# Altium integrated library ek-ra8d2_mp - Customer.IntLib: 133 symbols (part 2 of 2)
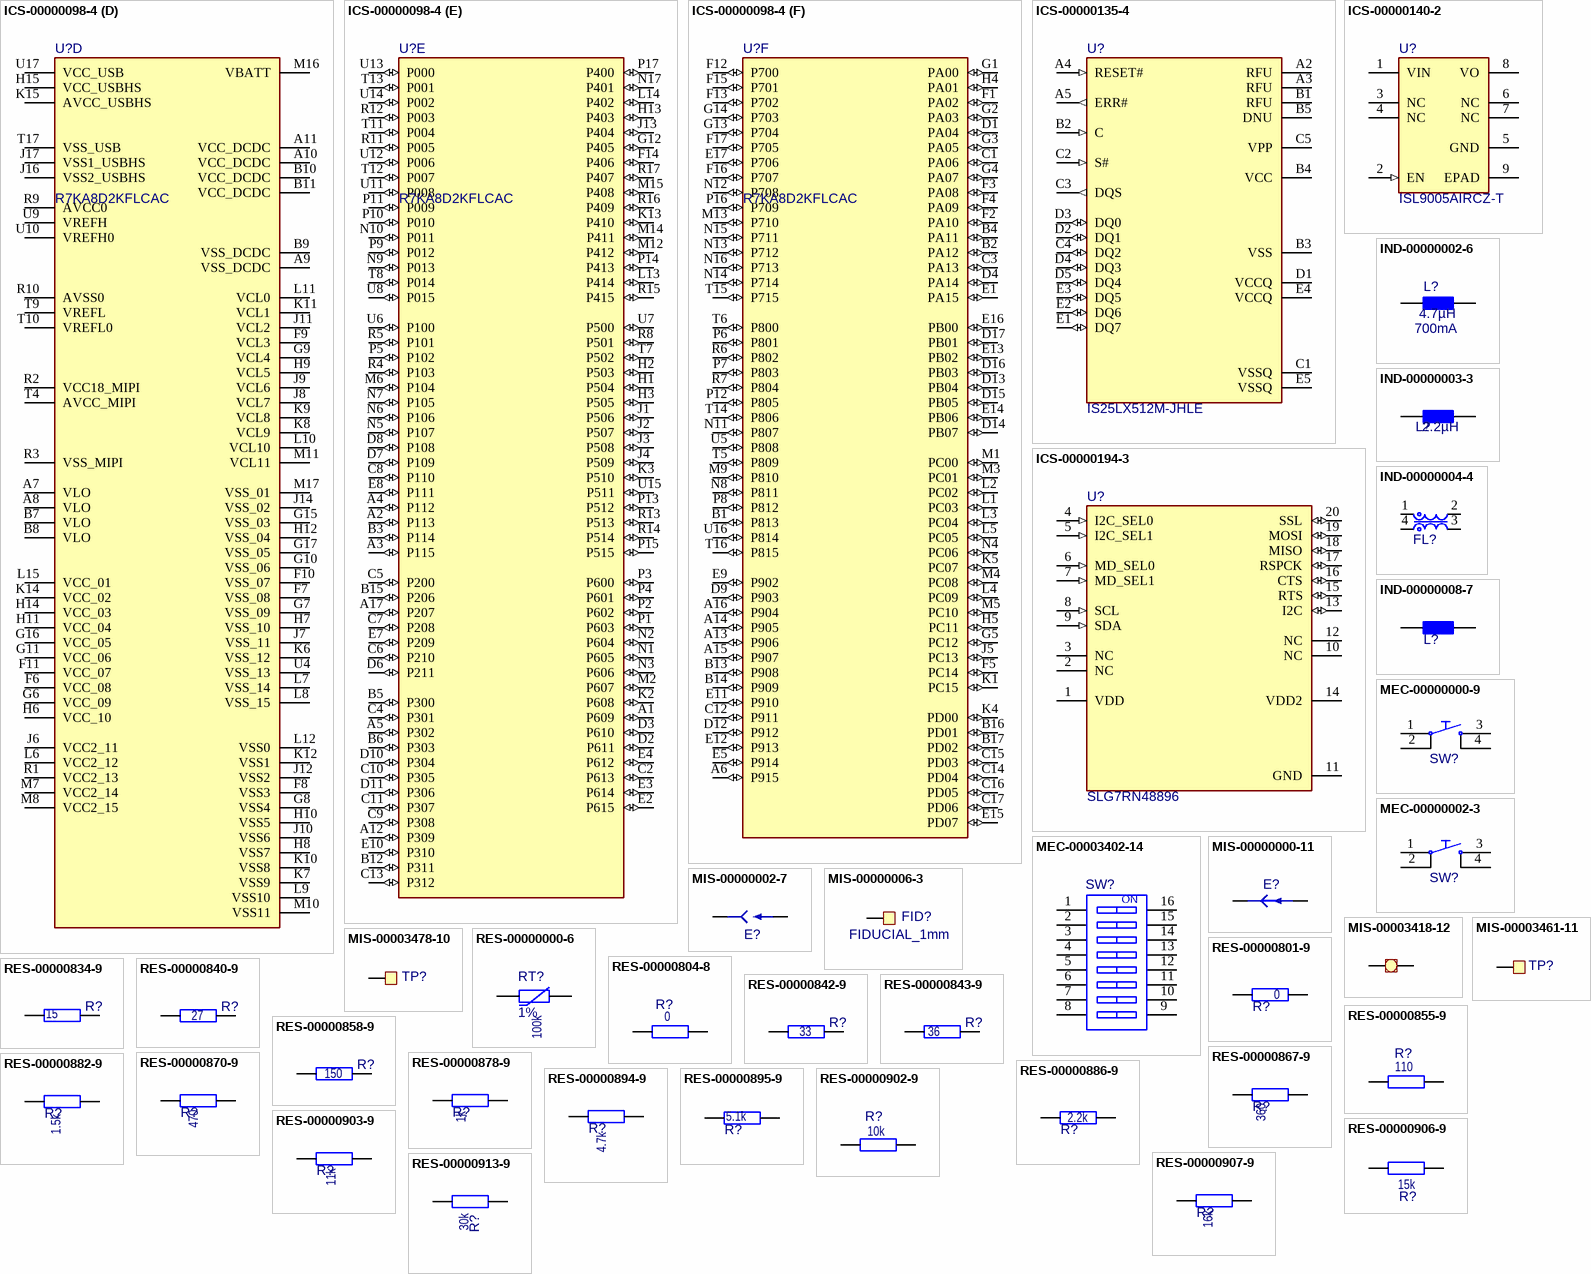
[diagram p6: symbols ICS-00000098-4 to RES-00000913-9]

## ICS-00000098-4
designator U?, comment R7KA8D2KFLCAC
Renesas RA8D2 32-bit MCU, High-performance 1 GHz Arm® Cortex®-M85 core, 250 MHz Arm® Cortex®-M33 core, up to 1 MB code MRAM, and 2 MB SRAM with ECC; Subtype: MCU/MPU; Operating Voltage Min: 1.62V; Frequency: 1GHz; Operating Voltage Max: 3.63V; Qualification: -; Operating Temperature Max: 95°C; Pin Count: 289; Operating Temperature Min: 0°C; Manufacturer: Renesas; Manufacturer Part Number: R7KA8D2KFLCAC; Component Type: Integrated Circuit
footprint ren_bga289_PRBG0289JA-A (BGA, PKG:PRBG0289JA-A 289-Leads, Body 12,00x12,00mmx1,71mm, Pitch 0,65mm)
part A pins: T1 MIPI_DL0_P (io), T2 MIPI_CL_P (io), T3 MIPI_DL1_P (io), U1 MIPI_DL0_N (io), U2 MIPI_CL_N (io), U3 MIPI_DL1_N (io)
part B pins: H16 USBHS_DP (io), H17 USBHS_DM (io), J15 USBHS_RREF (in)
part C pins: D5 RES (io), E6 MD (io), K16 XTAL (io), K17 EXTAL (io), L16 XCOUT (io), L17 XCIN (io)
part D pins: A7 VLO (power), A8 VLO (power), A9 VSS_DCDC (power), A10 VCC_DCDC (power), A11 VCC_DCDC (power), B7 VLO (power), B8 VLO (power), B9 VSS_DCDC (power), B10 VCC_DCDC (power), B11 VCC_DCDC (power), F6 VCC_08 (power), F7 VSS_08 (power), F8 VSS3 (power), F9 VCL3 (power), F10 VSS_07 (power), F11 VCC_07 (power), G6 VCC_09 (power), G7 VSS_09 (power), G8 VSS4 (power), G9 VCL4 (power), G10 VSS_06 (power), G11 VCC_06 (power), G15 VSS_03 (power), G16 VCC_05 (power), G17 VSS_05 (power), H6 VCC_10 (power), H7 VSS_10 (power), H8 VSS7 (power), H9 VCL5 (power), H10 VSS5 (power), H11 VCC_04 (power), H12 VSS_04 (power), H14 VCC_03 (power), H15 VCC_USBHS (power), J6 VCC2_11 (power), J7 VSS_11 (power), J8 VCL7 (power), J9 VCL6 (power), J10 VSS6 (power), J11 VCL2 (power), J12 VSS2 (power), J14 VSS_02 (power), J16 VSS2_USBHS (power), J17 VSS1_USBHS (power), K6 VSS_12 (power), K7 VSS9 (power), K8 VCL9 (power), K9 VCL8 (power), K10 VSS8 (power), K11 VCL1 (power), K12 VSS1 (power), K14 VCC_02 (power), K15 AVCC_USBHS, L6 VCC2_12 (power), L7 VSS_14 (power), L8 VSS_15 (power), L9 VSS10 (power), L10 VCL10 (power), L11 VCL0 (power), L12 VSS0 (power), L15 VCC_01 (power), M7 VCC2_14 (power), M8 VCC2_15 (power), M10 VSS11 (power), M11 VCL11 (power), M16 VBATT (power), M17 VSS_01 (power), R1 VCC2_13 (power), R2 VCC18_MIPI (power), R3 VSS_MIPI (power), R9 AVCC0 (power), R10 AVSS0 (power), T4 AVCC_MIPI (power), T9 VREFL (power), T10 VREFL0 (power), T17 VSS_USB (power), U4 VSS_13 (power), U9 VREFH (power), U10 VREFH0 (power), U17 VCC_USB (power)
part E pins: A1 P609 (io), A2 P113 (io), A3 P115 (io), A4 P112 (io), A5 P302 (io), A12 P309 (io), A17 P207 (io), B3 P114 (io), B5 P300 (io), B6 P303 (io), B12 P311 (io), B15 P206 (io), C2 P613 (io), C4 P301 (io), C5 P200 (io), C6 P210 (io), C7 P208 (io), C8 P110 (io), C9 P308 (io), C10 P305 (io), C11 P307 (io), C13 P312 (io), D2 P611 (io), D3 P610 (io), D6 P211 (io), D7 P109 (io), D8 P108 (io), D10 P304 (io), D11 P306 (io), E2 P615 (io), E3 P614 (io), E4 P612 (io), E7 P209 (io), E8 P111 (io), E10 P310 (io), F14 P406 (io), G12 P405 (io), H1 P504 (io), H2 P503 (io), H3 P505 (io), H13 P403 (io), J1 P506 (io), J2 P507 (io), J3 P508 (io), J4 P509 (io), J13 P404 (io), K2 P608 (io), K3 P510 (io), K13 P410 (io), L13 P414 (io), L14 P402 (io), M2 P607 (io), M6 P104 (io), M12 P412 (io), M14 P411 (io), M15 P408 (io), N1 P605 (io), N2 P604 (io), N3 P606 (io), N5 P107 (io), N6 P106 (io), N7 P105 (io), N9 P013 (io), N10 P011 (io), N17 P401 (io), P1 P603 (io), P2 P602 (io), P3 P600 (io), P4 P601 (io), P5 P102 (io), P9 P012 (io), P10 P010 (io), P11 P009 (io), P13 P512 (io), P14 P413 (io), P15 P515 (io), P17 P400 (io), R4 P103 (io), R5 P101 (io), R8 P501 (io), R11 P005 (io), R12 P003 (io), R13 P513 (io), R14 P514 (io), R15 P415 (io), R16 P409 (io), R17 P407 (io), T7 P502 (io), T8 P014 (io), T11 P004 (io), T12 P007 (io), T13 P001 (io), U6 P100 (io), U7 P500 (io), U8 P015 (io), U11 P008 (io), U12 P006 (io), U13 P000 (io), U14 P002 (io), U15 P511 (io)
part F pins: A6 P915 (io), A13 P906 (io), A14 P905 (io), A15 P907 (io), A16 P904 (io), B1 P813 (io), B2 PA12 (io), B4 PA11 (io), B13 P908 (io), B14 P909 (io), B16 PD01 (io), B17 PD02 (io), C1 PA06 (io), C3 PA13 (io), C12 P911 (io), C14 PD04 (io), C15 PD03 (io), C16 PD05 (io), C17 PD06 (io), D1 PA04 (io), D4 PA14 (io), D9 P903 (io), D12 P912 (io), D13 PB04 (io), D14 PB07 (io), D15 PB05 (io), D16 PB03 (io), D17 PB01 (io), E1 PA15 (io), E5 P914 (io), E9 P902 (io), E11 P910 (io), E12 P913 (io), E13 PB02 (io), E14 PB06 (io), E15 PD07 (io), E16 PB00 (io), E17 P706 (io), F1 PA02 (io), F2 PA10 (io), F3 PA08 (io), F4 PA09 (io), F5 PC14 (io), F12 P700 (io), F13 P702 (io), F15 P701 (io), F16 P707 (io), F17 P705 (io), G1 PA00 (io), G2 PA03 (io), G3 PA05 (io), G4 PA07 (io), G5 PC12 (io), G13 P704 (io), G14 P703 (io), H4 PA01 (io), H5 PC11 (io), J5 PC13 (io), K1 PC15 (io), K4 PD00 (io), K5 PC07 (io), L1 PC03 (io), L2 PC02 (io), L3 PC04 (io), L4 PC09 (io), L5 PC05 (io), M1 PC00 (io), M3 PC01 (io), M4 PC08 (io), M5 PC10 (io), M9 P810 (io), M13 P710 (io), N4 PC06 (io), N8 P811 (io), N11 P807 (io), N12 P708 (io), N13 P712 (io), N14 P714 (io), N15 P711 (io), N16 P713 (io), P6 P801 (io), P7 P803 (io), P8 P812 (io), P12 P805 (io), P16 P709 (io), R6 P802 (io), R7 P804 (io), T5 P809 (io), T6 P800 (io), T14 P806 (io), T15 P715 (io), T16 P815 (io), U5 P808 (io), U16 P814 (io)

## ICS-00000135-4
designator U?, comment IS25LX512M-JHLE
NOR Flash 512Mb, Octal Flash, 3V, 24-ball TFBGA; Manufacturer: ISSI; Operating Voltage Max: 3.6V; Subtype: Digital; Operating Voltage Min: 2.7V; Current: 13mA; Frequency: 133MHz; Pin Count: 24; Operating Temperature Min: -40°C; Qualification: -; Operating Temperature Max: 105°C; Manufacturer Part Number: IS25LX512M-JHLE; Component Type: Integrated Circuit
footprint isi_TFBGA-24_8x6 (ISSI 24-ball TFBGA 6x8mm 5x5 Array)
pins: A2 RFU, A3 RFU, A4 RESET# (in), A5 ERR# (out), B1 RFU, B2 C (in), B3 VSS (power), B4 VCC (power), B5 DNU, C1 VSSQ (power), C2 S# (in), C3 DQS (out), C4 DQ2 (io), C5 VPP (power), D1 VCCQ (power), D2 DQ1 (io), D3 DQ0 (io), D4 DQ3 (io), D5 DQ4 (io), E1 DQ7 (io), E2 DQ6 (io), E3 DQ5 (io), E4 VCCQ (power), E5 VSSQ (power)

## ICS-00000140-2
designator U?, comment ISL9005AIRCZ-T
LDO with Low ISUPPLY, High PSRR 1.8V fixed, 300mA; Manufacturer: Renesas; Subtype: Power; Operating Voltage Max: 6.5V; Operating Voltage Min: 2.3V; Current: 300mA; Operating Temperature Max: 85°C; Pin Count: 9; Qualification: -; Operating Temperature Min: -40°C; Output Voltage Max: 1.8V; Output Voltage Min: 1.8V; Manufacturer Part Number: ISL9005AIRCZ-T; Component Type: Integrated Circuit
footprint ren_DFN-8_3.00x2.00mm (DFN, 8-Leads, Body 3,00x2,00mm, Pitch 0,50mm, Thermal Pad 1,80x1.65mm, IPC Medium Density)
pins: 1 VIN (power), 2 EN (in), 3 NC (hiz), 4 NC (hiz), 5 GND (power), 6 NC (hiz), 7 NC (hiz), 8 VO (power), 9 EPAD (power)

## ICS-00000194-3
designator U?, comment SLG7RN48896
Renesas GreenPak PMOD mode controller; Operating Voltage Min: 3V; Operating Voltage Max: 3.6V; Subtype: Digital; Pin Count: 20; Qualification: -; Operating Temperature Max: 35°C; Operating Temperature Min: 15°C; Manufacturer: Renesas; Manufacturer Part Number: SLG7RN48896; Component Type: Integrated Circuit
footprint ren_STQFN-20_2x3 (STQFN, 20-Leads, Body 2,00x3,00mm, Pitch 0,40mm, IPC Medium Density)
pins: 1 VDD (power), 2 NC, 3 NC, 4 I2C_SEL0 (in), 5 I2C_SEL1 (in), 6 MD_SEL0 (in), 7 MD_SEL1 (in), 8 SCL (in), 9 SDA (in), 10 NC, 11 GND (power), 12 NC, 13 I2C (io), 14 VDD2 (power), 15 RTS (io), 16 CTS (io), 17 RSPCK (io), 18 MISO (io), 19 MOSI (io), 20 SSL (io)

## IND-00000002-6
designator L?, comment value 4.7µH  Current: 700mA  (hidden comment: Inductor)
Power Inductor Shielded Multilayer 4.7uH 20% 3MHz Ferrite 700mA; Manufacturer: Pulse Electronics; Manufacturer Part Number: BKPB002012104R7MA2; DC Resistance: 0.26; Subtype: Fixed; Tolerance: 20%; Frequency: 3MHz; Height: 1mm; Operating Temperature Max: 125°C; Operating Temperature Min: -55°C; Qualification: -; Component Type: Inductor
footprint L_EIA0805 (Chip Inductor, 2-Leads, Body 2.00x1.25mm, IPC Medium Density)
pins: 1, 2
1 alternate drawing of the same symbol

## IND-00000003-3
designator L?, comment value 2.2µH  (hidden comment: Inductor)
Inductor, 2.2uH, 20%, 7A, Metal-Core; Manufacturer: TDK; Manufacturer Part Number: SPM5020T-2R2M-LR; DC Resistance: 37m; Frequency: 100kHz; Subtype: Fixed; Current: 7A; Tolerance: 20%; Height: 2mm; Operating Temperature Max: 125°C; Operating Temperature Min: -40°C; Qualification: -; Component Type: Inductor
footprint tdk_spm5020-lr (Precision Wire Wound Inductor, TDK SPM5020-LR Series, 2-Leads, Body 5,40x5,10mm, IPC Medium Density)
pins: 1, 2
1 alternate drawing of the same symbol

## IND-00000004-4
designator FL?, comment CMC_1-2_4-3  (value not drawn)
Common Mode Choke / Filters, 90uH 25%, 0.1A, 3.8Ohm DCR; Manufacturer: Murata; Manufacturer Part Number: DLM0NSM900HY2D; Current: 100mA; DC Resistance: 3.8; Frequency: 100MHz; Subtype: CMC; Value: 90; Tolerance: 25%; Height: 450mm; Operating Temperature Max: 85°C; Operating Temperature Min: -40°C; Qualification: -; Component Type: Inductor
footprint mur_EIA03025 (Common Mode Choke, 4-Leads, Body 0.85x0.65mm, IPC Medium Intensity)
pins: 1, 2, 3, 4

## IND-00000008-7
designator L?, comment MPZ1005S121CT000  (value not drawn)
Ferrite Chip, 1.2A, 90mOhm DCR, 120Ohm Impedance @100MHz; Manufacturer: TDK; Tolerance: 25%; DC Resistance: 90m; Frequency: 100MHz; Value: 120; Current: 1.2A; Height: 550µm; Operating Temperature Max: 125°C; Operating Temperature Min: -55°C; Qualification: -; Subtype: Ferrite; Manufacturer Part Number: MPZ1005S121CT000; Component Type: Inductor
footprint L_EIA0402 (Chip Inductor, 2-Leads, Body 1.05x0.54mm, IPC Medium Density)
pins: 1, 2
1 alternate drawing of the same symbol

## MEC-00000000-9
designator SW?, comment PTS645SK43SMTR92LFS  (value not drawn)
SMD Push Button Switch, 4-pin, 6x6mm, 4.3mm height,  Red Actuator; Manufacturer: C&K Components; Current: 50mA; Operating Voltage Max: 12V; Operating Temperature Max: 85°C; Operating Temperature Min: -40°C; Subtype: Switch; Manufacturer Part Number: PTS645SK43SMTR92LFS; Component Type: Mechanical
footprint ck_PTS645_g_smt_4p3_red (SMD Push Button Switch, 4-pin, 6x6mm, SMT G Type, 4.3mm height)
pins: 1, 2, 3, 4

## MEC-00000002-3
designator SW?, comment PTS645SM43SMTR92LFS  (value not drawn)
SMD Push Button Switch, 4-pin, 6x6mm, 4.3mm height, Blue Actuator; Manufacturer: C&K Components; Current: 50mA; Operating Voltage Max: 12V; Subtype: Switch; Operating Temperature Min: -20°C; Operating Temperature Max: 60°C; Manufacturer Part Number: PTS645SM43SMTR92LFS; Component Type: Mechanical
footprint ck_PTS645_g_smt_4p3 (SMD Push Button Switch, 4-pin, 6x6mm, SMT G Type, 4.3mm height)
pins: 1, 2, 3, 4

## MEC-00003402-14
designator SW?, comment 416131160808  (value not drawn)
WS-DISV Small Compact SMT Flat Actuator with Top Tape 1.27 mm; Manufacturer: Wurth Elektronik; Current: 100mA; Operating Voltage Max: 50V; Subtype: Switch; Operating Temperature Max: 85°C; Operating Temperature Min: -40°C; Manufacturer Part Number: 416131160808; Component Type: Mechanical
footprint wue_416131160808 (SMD Dip Switch, Small Compact, Raised Actuator, 8pin)
pins: 1, 2, 3, 4, 5, 6, 7, 8, 9, 10, 11, 12, 13, 14, 15, 16
text: ON

## MIS-00000000-11
designator E?, comment TRACE_CUT_0805  (value not drawn)  (net tie, no BOM)
Trace Cut, SMD, 0805 size; Value: TC; Pin Count: 2; Qualification: -; Subtype: Trace Cut; Component Type: Miscellaneous
footprint trace_cut_0805 (Trace Cut, 0805-size)
pins: 1, 2

## MIS-00000002-7
designator E?, comment SOLDER_BRIDGE_0805  (value not drawn)  (no BOM)
Solder Bridge, SMD, 0805 size; Value: SB; Subtype: Solder Bridge; Qualification: -; Pin Count: 2; Component Type: Miscellaneous
footprint solder_bridge_0805 (Solder Bridge, 0805-size)
pins: 1, 2

## MIS-00000006-3
designator FID?, comment FIDUCIAL_1mm  (no BOM)
Fiducial, 1mm, 0.5mm soldermask; Subtype: Testpoint; Value: TP; Qualification: -; Pin Count: 1; Component Type: Miscellaneous
footprint Fiducial_1mm (Fiducial, 1mm, 0.5mm soldermask)
pins: 1

## MIS-00003418-12
designator FS?, comment FS_Trace_120um  (value not drawn)  (net tie, no BOM)
Force-Sense Trace 120um; Subtype: Force Sense; Value: FS Trace; Pin Count: 2; Qualification: -; Component Type: Miscellaneous
footprint force_sense_120um (Force sense Trace 120um)
pins: 1, 2

## MIS-00003461-11
designator TP?, comment TP_VIA_0p45_0p15  (value not drawn)  (no BOM)
Testpoint,THT,0.45mm PTH; Value: TP; Subtype: Testpoint; Qualification: -; Pin Count: 1; Component Type: Miscellaneous
footprint TP_VIA_0p45_0p15 (Testpoint)
pins: 1

## MIS-00003478-10
designator TP?, comment TP_Mini  (value not drawn)
Testpoint Miniature; Manufacturer: Keystone; Manufacturer Part Number: 5019; Value: TP; Pin Count: 1; Qualification: -; Subtype: Testpoint; Component Type: Miscellaneous
footprint key_5019
pins: 1

## RES-00000000-6
designator RT?, comment value 100k  Tolerance: 1%  (hidden comment: Thermistor)
NTC Thermistor, R_EIA0402, 100K, 4250K; Manufacturer: Murata; Manufacturer Part Number: NCP15WF104F03RC; Operating Voltage Max: 5V; Power: 160µW; Height: 550µm; Operating Temperature Max: 125°C; Operating Temperature Min: -40°C; Qualification: -; Subtype: Thermistor; Component Type: Resistor
footprint R_EIA0402 (Chip Resistor, 2-Leads, Body 1.05x0.54mm, IPC Medium Density)
pins: 1, 2

## RES-00000801-9
designator R?, comment value 0  (hidden comment: Resistor)
Resistor,EIA0402,0,0.0625W; Manufacturer: Yageo Group; Manufacturer Part Number: RC0402JR-070RL; Power: 62.5mW; Tolerance: 5%; Subtype: Chip Resistor; Operating Temperature Max: 155°C; Operating Temperature Min: -55°C; Qualification: -; Component Type: Resistor
footprint R_EIA0402 (Chip Resistor, 2-Leads, Body 1.05x0.54mm, IPC Medium Density)
pins: 1, 2

## RES-00000804-8
designator R?, comment value 0  (hidden comment: Resistor)
Resistor,EIA1206,0,0.25W; Manufacturer: Yageo Group; Manufacturer Part Number: RC1206JR-070RL; Power: 250mW; Tolerance: 5%; Subtype: Chip Resistor; Operating Temperature Max: 155°C; Operating Temperature Min: -55°C; Qualification: -; Component Type: Resistor
footprint R_EIA1206 (Chip Resistor, 2-Leads, Body 3.20x1.60mm, IPC Medium Density)
pins: 1, 2

## RES-00000834-9
designator R?, comment value 15  (hidden comment: RC0402FR-0715RL)
Resistor,EIA0402,15,0.0625W; Manufacturer: Yageo Group; Tolerance: 1%; Power: 62.5mW; Subtype: Chip Resistor; Operating Temperature Min: -55°C; Qualification: -; Operating Temperature Max: 155°C; Manufacturer Part Number: RC0402FR-0715RL; Component Type: Resistor
footprint R_EIA0402 (Chip Resistor, 2-Leads, Body 1.05x0.54mm, IPC Medium Density)
pins: 1, 2

## RES-00000840-9
designator R?, comment value 27  (hidden comment: Resistor)
Resistor,EIA0402,27,0.0625W; Manufacturer: Yageo Group; Manufacturer Part Number: RC0402FR-0727RL; Power: 62.5mW; Tolerance: 1%; Subtype: Chip Resistor; Operating Temperature Max: 155°C; Operating Temperature Min: -55°C; Qualification: -; Component Type: Resistor
footprint R_EIA0402 (Chip Resistor, 2-Leads, Body 1.05x0.54mm, IPC Medium Density)
pins: 1, 2

## RES-00000842-9
designator R?, comment value 33  (hidden comment: Resistor)
Resistor,EIA0402,33,0.0625W; Manufacturer: Yageo Group; Manufacturer Part Number: RC0402FR-0733RL; Power: 62.5mW; Tolerance: 1%; Subtype: Chip Resistor; Operating Temperature Max: 155°C; Operating Temperature Min: -55°C; Qualification: -; Component Type: Resistor
footprint R_EIA0402 (Chip Resistor, 2-Leads, Body 1.05x0.54mm, IPC Medium Density)
pins: 1, 2

## RES-00000843-9
designator R?, comment value 36  (hidden comment: Resistor)
Resistor,EIA0402,36,0.0625W; Manufacturer: Yageo Group; Manufacturer Part Number: RC0402FR-0736RL; Power: 62.5mW; Tolerance: 1%; Subtype: Chip Resistor; Operating Temperature Max: 155°C; Operating Temperature Min: -55°C; Qualification: -; Parameter 1: *; Component Type: Resistor
footprint R_EIA0402 (Chip Resistor, 2-Leads, Body 1.05x0.54mm, IPC Medium Density)
pins: 1, 2

## RES-00000855-9
designator R?, comment value 110  (hidden comment: Resistor)
Resistor,EIA0402,110,0.0625W; Manufacturer: Yageo Group; Manufacturer Part Number: RC0402FR-07110RL; Power: 62.5mW; Tolerance: 1%; Subtype: Chip Resistor; Operating Temperature Max: 155°C; Operating Temperature Min: -55°C; Qualification: -; Component Type: Resistor
footprint R_EIA0402 (Chip Resistor, 2-Leads, Body 1.05x0.54mm, IPC Medium Density)
pins: 1, 2

## RES-00000858-9
designator R?, comment value 150  (hidden comment: Resistor)
Resistor,EIA0402,150,0.0625W; Manufacturer: Yageo Group; Manufacturer Part Number: RC0402FR-07150RL; Power: 62.5mW; Tolerance: 1%; Subtype: Chip Resistor; Operating Temperature Max: 155°C; Operating Temperature Min: -55°C; Qualification: -; Component Type: Resistor
footprint R_EIA0402 (Chip Resistor, 2-Leads, Body 1.05x0.54mm, IPC Medium Density)
pins: 1, 2

## RES-00000867-9
designator R?, comment value 360  (hidden comment: Resistor)
Resistor,EIA0402,360,0.0625W; Manufacturer: Yageo Group; Manufacturer Part Number: RC0402FR-07360RL; Power: 62.5mW; Tolerance: 1%; Subtype: Chip Resistor; Operating Temperature Max: 155°C; Operating Temperature Min: -55°C; Qualification: -; Component Type: Resistor
footprint R_EIA0402 (Chip Resistor, 2-Leads, Body 1.05x0.54mm, IPC Medium Density)
pins: 1, 2

## RES-00000870-9
designator R?, comment value 470  (hidden comment: Resistor)
Resistor,EIA0402,470,0.0625W; Manufacturer: Yageo Group; Manufacturer Part Number: RC0402FR-07470RL; Power: 62.5mW; Tolerance: 1%; Subtype: Chip Resistor; Operating Temperature Max: 155°C; Operating Temperature Min: -55°C; Qualification: -; Component Type: Resistor
footprint R_EIA0402 (Chip Resistor, 2-Leads, Body 1.05x0.54mm, IPC Medium Density)
pins: 1, 2

## RES-00000878-9
designator R?, comment value 1k  (hidden comment: RC0402FR-071KL)
Resistor,EIA0402,1k,0.0625W; Manufacturer: Yageo Group; Power: 62.5mW; Tolerance: 1%; Subtype: Chip Resistor; Operating Temperature Max: 155°C; Operating Temperature Min: -55°C; Qualification: -; Manufacturer Part Number: RC0402FR-071KL; Component Type: Resistor
footprint R_EIA0402 (Chip Resistor, 2-Leads, Body 1.05x0.54mm, IPC Medium Density)
pins: 1, 2

## RES-00000882-9
designator R?, comment value 1.5k  (hidden comment: RC0402FR-071K5L)
Resistor,EIA0402,1.5k,0.0625W; Manufacturer: Yageo Group; Power: 62.5mW; Tolerance: 1%; Subtype: Chip Resistor; Operating Temperature Max: 155°C; Operating Temperature Min: -55°C; Qualification: -; Manufacturer Part Number: RC0402FR-071K5L; Component Type: Resistor
footprint R_EIA0402 (Chip Resistor, 2-Leads, Body 1.05x0.54mm, IPC Medium Density)
pins: 1, 2

## RES-00000886-9
designator R?, comment value 2.2k  (hidden comment: Resistor)
Resistor,EIA0402,2.2k,0.0625W; Manufacturer: Yageo Group; Manufacturer Part Number: RC0402FR-072K2L; Power: 62.5mW; Tolerance: 1%; Subtype: Chip Resistor; Operating Temperature Max: 155°C; Operating Temperature Min: -55°C; Qualification: -; Component Type: Resistor
footprint R_EIA0402 (Chip Resistor, 2-Leads, Body 1.05x0.54mm, IPC Medium Density)
pins: 1, 2

## RES-00000894-9
designator R?, comment value 4.7k  (hidden comment: Resistor)
Resistor,EIA0402,4.7k,0.0625W; Manufacturer: Yageo Group; Manufacturer Part Number: RC0402FR-074K7L; Power: 62.5mW; Tolerance: 1%; Subtype: Chip Resistor; Operating Temperature Max: 155°C; Operating Temperature Min: -55°C; Qualification: -; Component Type: Resistor
footprint R_EIA0402 (Chip Resistor, 2-Leads, Body 1.05x0.54mm, IPC Medium Density)
pins: 1, 2

## RES-00000895-9
designator R?, comment value 5.1k  (hidden comment: Resistor)
Resistor,EIA0402,5.1k,0.0625W; Manufacturer: Yageo Group; Manufacturer Part Number: RC0402FR-075K1L; Power: 62.5mW; Tolerance: 1%; Subtype: Chip Resistor; Operating Temperature Max: 155°C; Operating Temperature Min: -55°C; Qualification: -; Component Type: Resistor
footprint R_EIA0402 (Chip Resistor, 2-Leads, Body 1.05x0.54mm, IPC Medium Density)
pins: 1, 2

## RES-00000902-9
designator R?, comment value 10k  (hidden comment: Resistor)
Resistor,EIA0402,10k,0.0625W; Manufacturer: Yageo Group; Manufacturer Part Number: RC0402FR-0710KL; Power: 62.5mW; Tolerance: 1%; Subtype: Chip Resistor; Operating Temperature Max: 155°C; Operating Temperature Min: -55°C; Qualification: -; Component Type: Resistor
footprint R_EIA0402 (Chip Resistor, 2-Leads, Body 1.05x0.54mm, IPC Medium Density)
pins: 1, 2

## RES-00000903-9
designator R?, comment value 11k  (hidden comment: Resistor)
Resistor,EIA0402,11k,0.0625W; Manufacturer: Yageo Group; Manufacturer Part Number: RC0402FR-0711KL; Power: 62.5mW; Tolerance: 1%; Subtype: Chip Resistor; Operating Temperature Max: 155°C; Operating Temperature Min: -55°C; Qualification: -; Component Type: Resistor
footprint R_EIA0402 (Chip Resistor, 2-Leads, Body 1.05x0.54mm, IPC Medium Density)
pins: 1, 2

## RES-00000906-9
designator R?, comment value 15k  (hidden comment: RC0402FR-0715KL)
Resistor,EIA0402,15k,0.0625W; Manufacturer: Yageo Group; Tolerance: 1%; Power: 62.5mW; Subtype: Chip Resistor; Operating Temperature Min: -55°C; Qualification: -; Operating Temperature Max: 155°C; Manufacturer Part Number: RC0402FR-0715KL; Component Type: Resistor
footprint R_EIA0402 (Chip Resistor, 2-Leads, Body 1.05x0.54mm, IPC Medium Density)
pins: 1, 2

## RES-00000907-9
designator R?, comment value 16k  (hidden comment: Resistor)
Resistor,EIA0402,16k,0.0625W; Manufacturer: Yageo Group; Manufacturer Part Number: RC0402FR-0716KL; Power: 62.5mW; Tolerance: 1%; Subtype: Chip Resistor; Operating Temperature Max: 155°C; Operating Temperature Min: -55°C; Qualification: -; Component Type: Resistor
footprint R_EIA0402 (Chip Resistor, 2-Leads, Body 1.05x0.54mm, IPC Medium Density)
pins: 1, 2

## RES-00000913-9
designator R?, comment value 30k  (hidden comment: RC0402FR-0730KL)
Resistor,EIA0402,30k,0.0625W; Manufacturer: Yageo Group; Subtype: Chip Resistor; Tolerance: 1%; Power: 62.5mW; Qualification: -; Operating Temperature Min: -55°C; Operating Temperature Max: 155°C; Manufacturer Part Number: RC0402FR-0730KL; Component Type: Resistor
footprint R_EIA0402 (Chip Resistor, 2-Leads, Body 1.05x0.54mm, IPC Medium Density)
pins: 1, 2

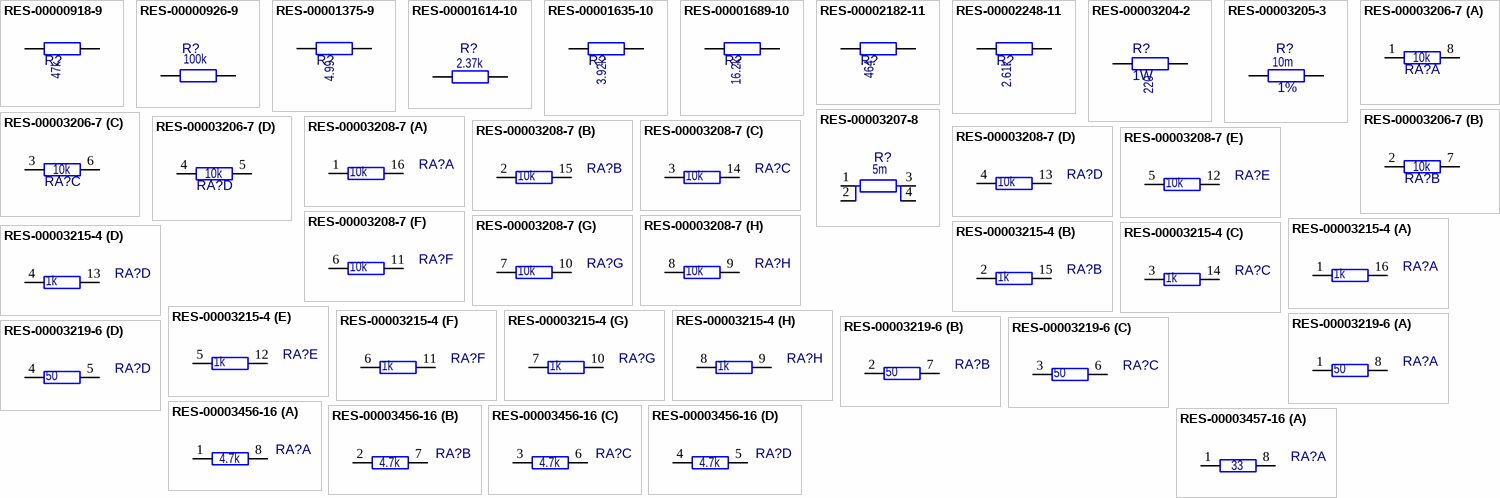
[diagram p4: symbols RES-00000918-9 to RES-00003457-16]

## RES-00000918-9
designator R?, comment value 47k  (hidden comment: Resistor)
Resistor,EIA0402,47k,0.0625W; Manufacturer: Yageo Group; Manufacturer Part Number: RC0402FR-0747KL; Power: 62.5mW; Tolerance: 1%; Subtype: Chip Resistor; Operating Temperature Max: 155°C; Operating Temperature Min: -55°C; Qualification: -; Component Type: Resistor
footprint R_EIA0402 (Chip Resistor, 2-Leads, Body 1.05x0.54mm, IPC Medium Density)
pins: 1, 2

## RES-00000926-9
designator R?, comment value 100k  (hidden comment: Resistor)
Resistor,EIA0402,100k,0.0625W; Manufacturer: Yageo Group; Manufacturer Part Number: RC0402FR-07100KL; Power: 62.5mW; Tolerance: 1%; Subtype: Chip Resistor; Operating Temperature Max: 155°C; Operating Temperature Min: -55°C; Qualification: -; Component Type: Resistor
footprint R_EIA0402 (Chip Resistor, 2-Leads, Body 1.05x0.54mm, IPC Medium Density)
pins: 1, 2

## RES-00001375-9
designator R?, comment value 4.99  (hidden comment: Resistor)
Resistor,EIA0402,4.99,0.0625W; Manufacturer: Yageo Group; Manufacturer Part Number: RC0402FR-074R99L; Power: 62.5mW; Tolerance: 1%; Subtype: Chip Resistor; Operating Temperature Max: 155°C; Operating Temperature Min: -55°C; Qualification: -; Component Type: Resistor
footprint R_EIA0402 (Chip Resistor, 2-Leads, Body 1.05x0.54mm, IPC Medium Density)
pins: 1, 2

## RES-00001614-10
designator R?, comment value 2.37k  (hidden comment: Resistor)
Resistor,EIA0402,2.37k,0.0625W; Manufacturer: Yageo Group; Manufacturer Part Number: RC0402FR-072K37L; Power: 62.5mW; Tolerance: 1%; Subtype: Chip Resistor; Operating Temperature Max: 155°C; Operating Temperature Min: -55°C; Qualification: -; Component Type: Resistor
footprint R_EIA0402 (Chip Resistor, 2-Leads, Body 1.05x0.54mm, IPC Medium Density)
pins: 1, 2

## RES-00001635-10
designator R?, comment value 3.92k  (hidden comment: Resistor)
Resistor,EIA0402,3.92k,0.0625W; Manufacturer: Yageo Group; Manufacturer Part Number: RC0402FR-073K92L; Power: 62.5mW; Tolerance: 1%; Subtype: Chip Resistor; Operating Temperature Max: 155°C; Operating Temperature Min: -55°C; Qualification: -; Component Type: Resistor
footprint R_EIA0402 (Chip Resistor, 2-Leads, Body 1.05x0.54mm, IPC Medium Density)
pins: 1, 2

## RES-00001689-10
designator R?, comment value 16.2k  (hidden comment: Resistor)
Resistor,EIA0402,16.2k,0.0625W; Manufacturer: Yageo Group; Manufacturer Part Number: RC0402FR-0716K2L; Power: 62.5mW; Tolerance: 1%; Subtype: Chip Resistor; Operating Temperature Max: 155°C; Operating Temperature Min: -55°C; Qualification: -; Component Type: Resistor
footprint R_EIA0402 (Chip Resistor, 2-Leads, Body 1.05x0.54mm, IPC Medium Density)
pins: 1, 2

## RES-00002182-11
designator R?, comment value 464  (hidden comment: Resistor)
Resistor,EIA0603,464,0.1W; Manufacturer: Yageo Group; Manufacturer Part Number: RC0603FR-07464RL; Power: 100mW; Tolerance: 1%; Subtype: Chip Resistor; Operating Temperature Max: 155°C; Operating Temperature Min: -55°C; Qualification: -; Component Type: Resistor
footprint R_EIA0603 (Chip Resistor, 2-Leads, Body 1.70x0.95mm, IPC Medium Density)
pins: 1, 2

## RES-00002248-11
designator R?, comment value 2.61k  (hidden comment: Resistor)
Resistor,EIA0603,2.61k,0.1W; Manufacturer: Yageo Group; Manufacturer Part Number: RC0603FR-072K61L; Power: 100mW; Tolerance: 1%; Subtype: Chip Resistor; Operating Temperature Max: 155°C; Operating Temperature Min: -55°C; Qualification: -; Component Type: Resistor
footprint R_EIA0603 (Chip Resistor, 2-Leads, Body 1.70x0.95mm, IPC Medium Density)
pins: 1, 2

## RES-00003204-2
designator R?, comment value 220  Power: 1W  (hidden comment: Resistor)
Resistor,EIA2512,220,1W; Manufacturer: Stackpole Electronics; Manufacturer Part Number: RMCF2512FT220R; Tolerance: 1%; Operating Voltage Max: 200V; Qualification: AEC-Q100; Subtype: Chip Resistor; Height: 750µm; Operating Temperature Max: 155°C; Operating Temperature Min: -55°C; Temperature Coefficient: -; Component Type: Resistor
footprint R_EIA2512 (Chip Resistor, 2-Leads, Body 6.30x3.20mm, IPC Medium Density)
pins: 1, 2

## RES-00003205-3
designator R?, comment value 10m  Tolerance: 1%  (hidden comment: Resistor)
Resistor,EIA0603,10m,0.25W; Manufacturer: Panasonic; Manufacturer Part Number: ERJ-3LWFR010V; Power: 250mW; Qualification: AEC-Q200; Subtype: Chip Resistor; Height: 700µm; Operating Temperature Max: 125°C; Operating Temperature Min: -55°C; Component Type: Resistor
footprint R_EIA0603 (Chip Resistor, 2-Leads, Body 1.70x0.95mm, IPC Medium Density)
pins: 1, 2

## RES-00003206-7
designator RA?, comment value 10k  (hidden comment: Resistor_Array)
Resistor Network & Array,0804, 10k,0.0625W; Manufacturer: Yageo Group; Manufacturer Part Number: YC124-FR-0710KL; Power: 62.5mW; Tolerance: 1%; Qualification: AEC-Q200; Subtype: Resistor Array; Operating Temperature Max: 155°C; Operating Temperature Min: -55°C; Component Type: Resistor
footprint R_Array_EIA0804 (Resistor Array, 8-Leads, Body 2.00x1.00mm, IPC Medium Density)
part A pins: 1, 8
part B pins: 2, 7
part C pins: 3, 6
part D pins: 4, 5

## RES-00003207-8
designator R?, comment value 5m  (hidden comment: PS0612FKE070R005L)
Current Sense Resistor,EIA0612,5m,1W; Manufacturer: Yageo Group; Tolerance: 1%; Subtype: Chip Resistor; Power: 1W; Height: 800µm; Operating Temperature Max: 155°C; Operating Temperature Min: -55°C; Qualification: -; Manufacturer Part Number: PS0612FKE070R005L; Component Type: Resistor
footprint R_EIA0612 (Chip Resistor, 4-Leads, Body 3,2x1,6mm, IPC Medium Density)
pins: 1, 2, 3, 4

## RES-00003208-7
designator RA?, comment value 10k  (hidden comment: EXB-2HV103JV)
Resistor Network & Array,EIA1506,10k,0.063W; Manufacturer: Panasonic; Subtype: Resistor Array; Qualification: AEC-Q200; Operating Voltage Max: 50V; Tolerance: 5%; Power: 62.5mW; Operating Temperature Min: -55°C; Height: 550µm; Operating Temperature Max: 125°C; Manufacturer Part Number: EXB-2HV103JV; Component Type: Resistor
footprint R_Array_EIA1506 (Resistor Array, ConvexE, 16-Leads, Pitch 0,50mm,  Body 3,20x1,50mm,  IPC Medium Density)
part A pins: 1, 16
part B pins: 2, 15
part C pins: 3, 14
part D pins: 4, 13
part E pins: 5, 12
part F pins: 6, 11
part G pins: 7, 10
part H pins: 8, 9

## RES-00003215-4
designator RA?, comment value 1k  (hidden comment: EXB-2HV102JV)
Array/Network Resistor, Isolated, Metal Glaze/thick Film, 0.063W, 1000ohm, 25V, 5% +/-Tol, 200ppm/Cel, Surface Mount, 1506; Manufacturer: Panasonic; Power: 63mW; Qualification: AEC-Q200; Temperature Coefficient: 200ppm; Subtype: Resistor Array; Height: 550µm; Operating Voltage Max: 25V; Tolerance: 5%; Operating Temperature Max: 125°C; Operating Temperature Min: -55°C; Manufacturer Part Number: EXB-2HV102JV; Component Type: Resistor
footprint R_Array_EIA1506 (Resistor Array, ConvexE, 16-Leads, Pitch 0,50mm,  Body 3,20x1,50mm,  IPC Medium Density)
part A pins: 1, 16
part B pins: 2, 15
part C pins: 3, 14
part D pins: 4, 13
part E pins: 5, 12
part F pins: 6, 11
part G pins: 7, 10
part H pins: 8, 9

## RES-00003219-6
designator RA?, comment value 50  (hidden comment: YC124-FR-0749R9L)
Resistor Network & Array,0804, 50,0.0625W; Manufacturer: Yageo Group; Subtype: Chip Resistor; Tolerance: 1%; Temperature Coefficient: 200ppm; Power: 62mW; Qualification: AEC-Q200; Operating Temperature Max: 155°C; Operating Temperature Min: -55°C; Height: 550µm; Manufacturer Part Number: YC124-FR-0749R9L; Component Type: Resistor
footprint R_Array_EIA0804 (Resistor Array, 8-Leads, Body 2.00x1.00mm, IPC Medium Density)
part A pins: 1, 8
part B pins: 2, 7
part C pins: 3, 6
part D pins: 4, 5

## RES-00003456-16
designator RA?, comment value 4.7k  (hidden comment: YC124-FR-074K7L)
Resistor Network & Array,0804,4.7k,0.0625W; Manufacturer: Yageo Group; Power: 62.5mW; Tolerance: 1%; Qualification: AEC-Q200; Subtype: Resistor Array; Temperature Coefficient: 200ppm; Operating Temperature Max: 155°C; Operating Temperature Min: -55°C; Manufacturer Part Number: YC124-FR-074K7L; Component Type: Resistor
footprint R_Array_EIA0804 (Resistor Array, 8-Leads, Body 2.00x1.00mm, IPC Medium Density)
part A pins: 1, 8
part B pins: 2, 7
part C pins: 3, 6
part D pins: 4, 5

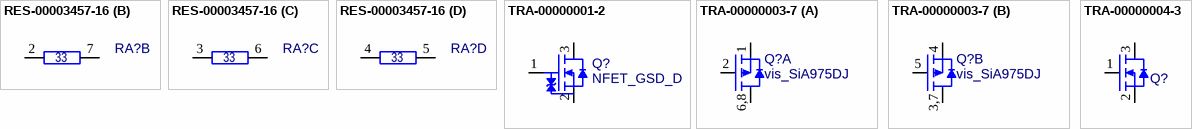
[diagram p5: symbols RES-00003457-16 to TRA-00000004-3]

## RES-00003457-16
designator RA?, comment value 33  (hidden comment: Resistor_Array)
Resistor Network & Array,0804,33,0.0625W; Manufacturer: Yageo Group; Manufacturer Part Number: YC124-FR-0733RL; Power: 62.5mW; Tolerance: 1%; Qualification: AEC-Q200; Subtype: Resistor Array; Temperature Coefficient: 200ppm; Operating Temperature Max: 155°C; Operating Temperature Min: -55°C; Component Type: Resistor
footprint R_Array_EIA0804 (Resistor Array, 8-Leads, Body 2.00x1.00mm, IPC Medium Density)
part A pins: 1, 8
part B pins: 2, 7
part C pins: 3, 6
part D pins: 4, 5

## TRA-00000001-2
designator Q?, comment NFET_GSD_D
N-Channel 60V 250mA Small Signal MOSFET; Manufacturer: ROHM; Manufacturer Part Number: RE1L002SNTL; DC Resistance: 2.4; Gate Voltage Threshold Max: 2.3V; Gate Voltage Threshold Min: 1V; Input Capacitance: 15pF; Power: 150mW; Subtype: NMOS; Current: 250mA; Operating Temperature Max: 150°C; Operating Temperature Min: -55°C; Operating Voltage Max: 60V; Pin Count: 3; Qualification: -; Component Type: Transistor
footprint roh_SOT-416FL_SC-89 (Rohm SOT-461FL, SC-89, 3-Leads, Body 1,60x1,60mm, Pitch 0,50mm, IPC Medium Density)
pins: 1 Gate, 2 Source, 3 Drain

## TRA-00000003-7
designator Q?, comment vis_SiA975DJ
Dual P-Channel -12V -4.5A MOSFET; Manufacturer: Vishay; Manufacturer Part Number: SIA975DJ-T1-GE3; DC Resistance: 0.11; Gate Voltage Threshold Max: -1V; Gate Voltage Threshold Min: -400mV; Input Capacitance: 1.5nF; Power: 1.9W; Subtype: PMOS; Current: -4.5A; Operating Temperature Max: 150°C; Operating Temperature Min: -55°C; Operating Voltage Max: -12V; Pin Count: 6; Qualification: -; Component Type: Transistor
footprint vis_SC70-6L_Dual (Vishay PowerPAK SC70-6L Dual, 6-Leads, Body 2.15x2.15mm, Pitch 0.65mm, Dual Thermal Pad, IPC Medium Density)
part A pins: 1 Source1, 2 Gate1, 6,8 Drain1
part B pins: 3,7 Drain2, 4 Source2, 5 Gate2

## TRA-00000004-3
designator Q?, comment NFET_GSD  (value not drawn)
N-Channel 30V 5A 1.3W MOSFET; Manufacturer: Infineon; Manufacturer Part Number: IRLML6344TRPBF; DC Resistance: 29m; Gate Voltage Threshold Max: 1.1V; Gate Voltage Threshold Min: 500mV; Input Capacitance: 650pF; Subtype: NMOS; Current: 5A; Operating Temperature Max: 150°C; Operating Temperature Min: -55°C; Operating Voltage Max: 30V; Pin Count: 3; Power: 1.3W; Qualification: -; Component Type: Transistor
footprint ir_sot-23_3N (SOT23, 3-Leads, Body 2,92x2,37mm, Pitch 0,95mm, IPC Medium Density)
pins: 1 Gate, 2 Source, 3 Drain